# Altium footprint library PcbLib2.PcbLib: 33 footprints (part 3 of 3)
Each footprint in its own frame and in the unit in brackets; x right, y up, seen from the top. Pads: shape width x height; smd on the part's side, far side on the other; paste and mask are expansions set on the pad; w line width, h text height; cw(c..) or ccw(c..) is an arc to the next point about the centre after c.
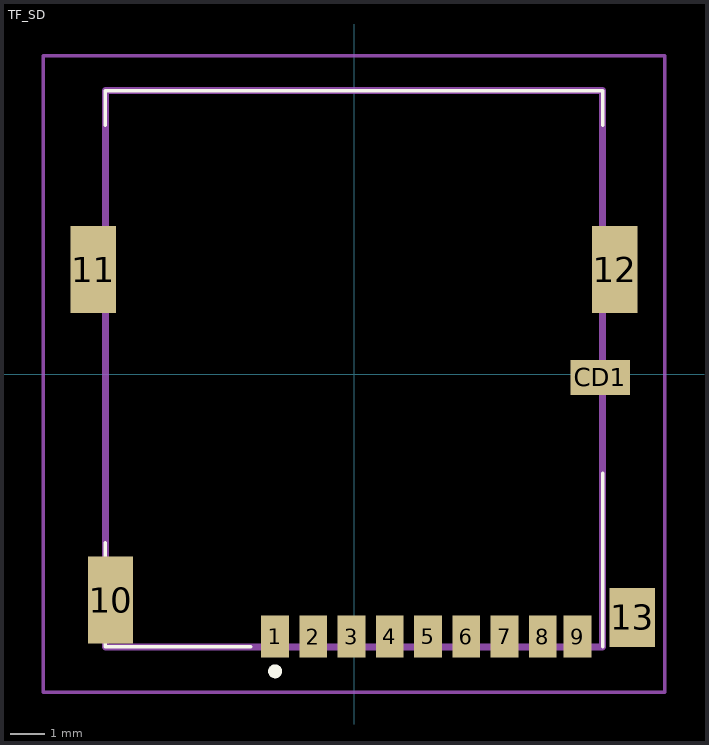
[diagram p2: the footprint, top view; thin cyan lines are the x and y axes]

## TF_SD [mm]
pads (14):
  rect 0.8x1.2 smd: 1(-2.27,-7.55) 2(-1.17,-7.55) 3(-0.07,-7.55) 4(1.03,-7.55) 5(2.13,-7.55) 6(3.23,-7.55) 7(4.33,-7.55) 8(5.43,-7.55) 9(6.43,-7.55)
  rect 1.3x2.5 smd: 10(-7,-6.5) 11(-7.5,3) 12(7.5,3)
  rect 1.3x1.7 smd: 13(8,-7)
  rect 1.7x1 smd: CD1(7.08,-0.1)
Top Overlay:
  lines w0.1: -7.15,-4.85 -7.15,-7.85 -2.97,-7.85 ; -7.15,7.15 -7.15,8.15 7.15,8.15 7.15,7.15 ; 7.15,-7.85 7.15,-6.35 7.15,-2.85
  lines w0.2: -2.37,-8.55 cw(c-2.27,-8.55) -2.17,-8.55 cw(c-2.27,-8.55) -2.37,-8.55
Mechanical 13:
  lines w0.2: -7.15,-7.85 -7.15,8.15 7.15,8.15 7.15,-7.85 -7.15,-7.85
Mechanical 15:
  lines w0.1: -8.93,-9.15 -8.93,9.15 8.93,9.15 8.93,-9.15 -8.93,-9.15
3D body "045138008100858+.stp": height 1.65, standoff 0, extent -7.5,-7.88 7.5,8.62